# EAGLE library part 691323300006 (library Wuerth_Elektronik_eiCan_Terminal_Blocks_v2.0)
WR-TBL Serie 3233 - 3.81mm Vertical PCB Header with Flanges , 6 pins
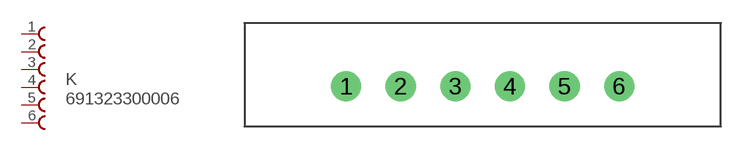
[diagram p36: symbol with the pads of 691323300006; footprint 691323300006]

Designator prefix K

## 691323300006  [691323300006]
1  1  pas
2  2  pas
3  3  pas
4  4  pas
5  5  pas
6  6  pas

## Footprint 691323300006 (pad centres in mm)
WR-TBL Serie 3233 - 3.81mm Vertical PCB Header with Flanges , 6 pins
drill 1.4 round: 1 -11.43,0; 2 -7.62,0; 3 -3.81,0; 4 0,0; 5 3.81,0; 6 7.62,0